# Altium footprint library Crystal.PcbLib: 21 footprints (part 1 of 2)
Each footprint in its own frame and in the unit in brackets; x right, y up, seen from the top. Pads: shape width x height; smd on the part's side, far side on the other; paste and mask are expansions set on the pad; w line width, h text height; cw(c..) or ccw(c..) is an arc to the next point about the centre after c.
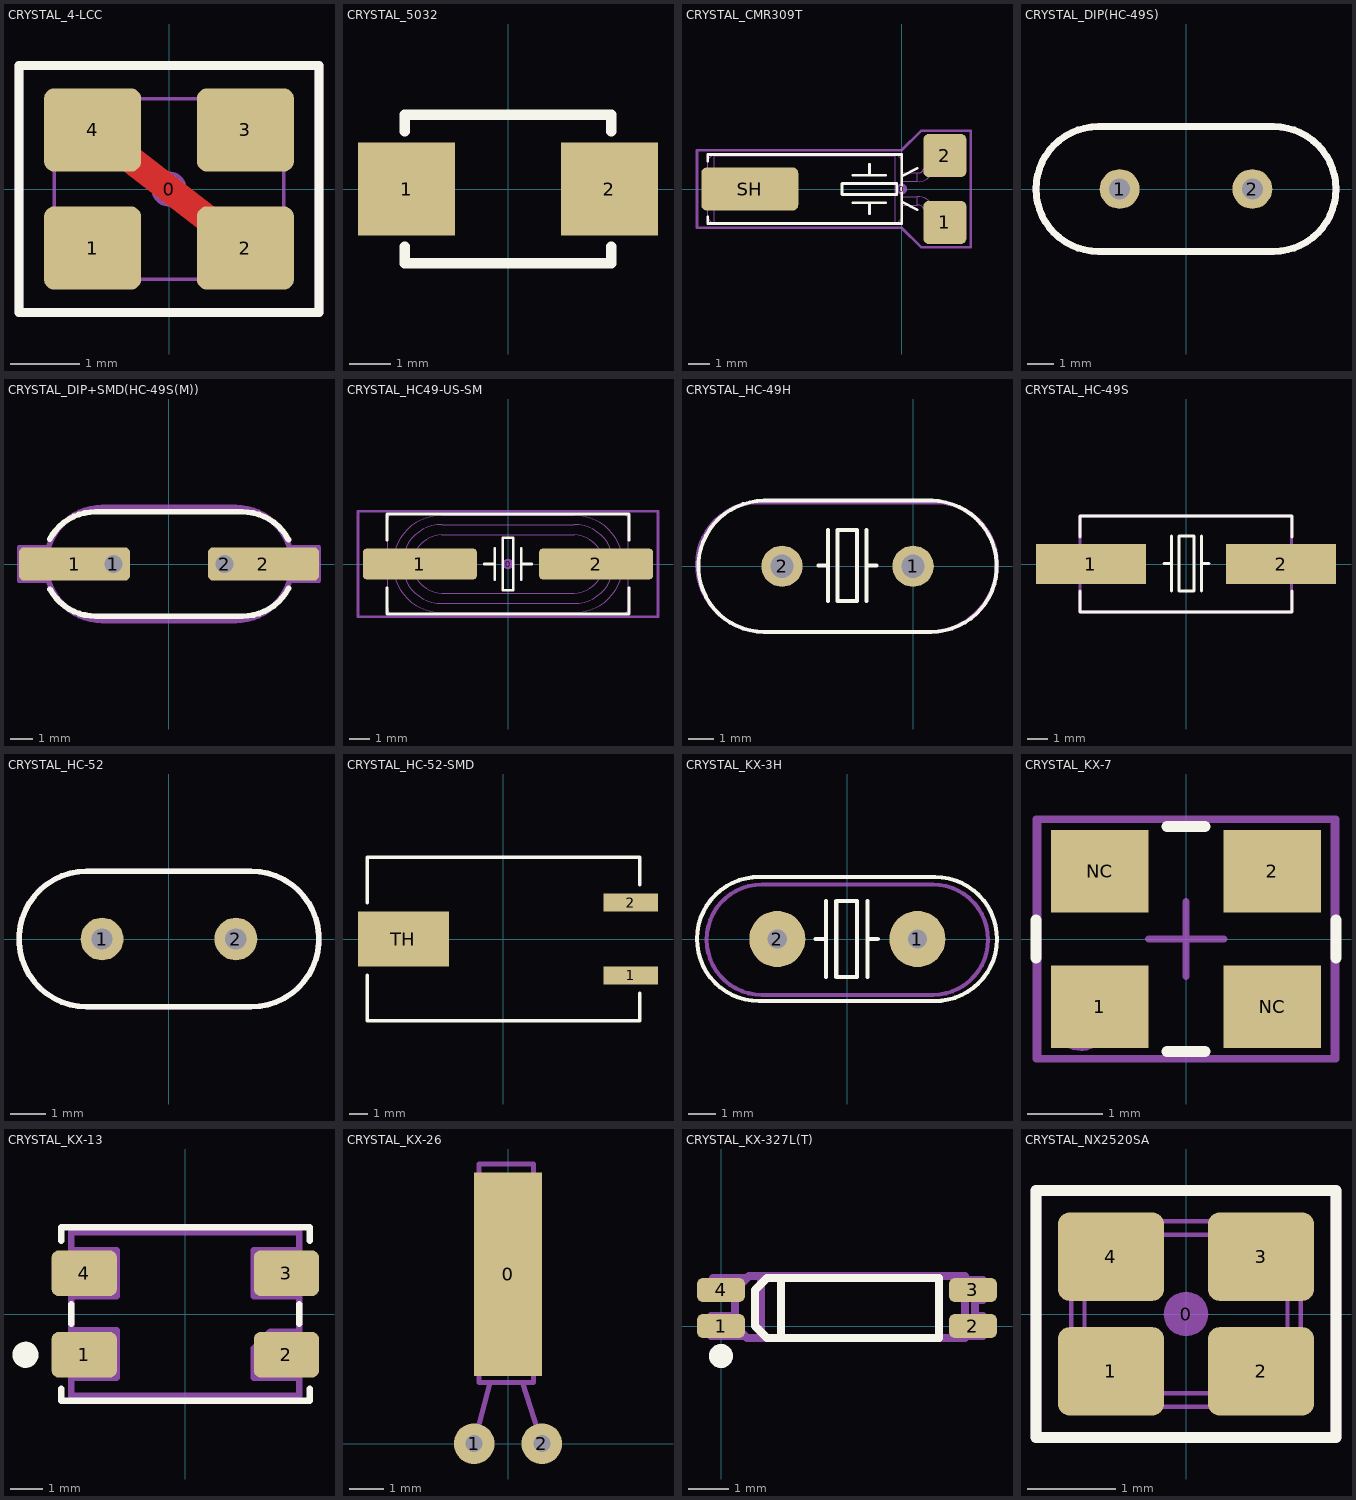
[diagram p0: the footprints below, top view; thin cyan lines are the x and y axes]

## CRYSTAL_4-LCC [mm] "SMD Crystal 4-lead leadless package"
height 0.8
pads (5):
  round 0.508 on Mech15: 0(0,0)
  rrect25% 1.4x1.2 smd: 1(-1.1,-0.85) 2(1.1,-0.85) 3(1.1,0.85) 4(-1.1,0.85)
Top Layer:
  lines w0.4: -1.1,0.85 1.1,-0.85
Top Overlay:
  lines w0.127: -2.159,-1.778 2.159,-1.778 2.159,1.778 -2.159,1.778 -2.159,-1.778
Mechanical 13:
  lines w0.05: -1.65,-1.143 -1.65,1.143 -1.493,1.3 1.494,1.3 1.65,1.144 1.65,-1.143 1.493,-1.3 -1.493,-1.3 -1.65,-1.143
Mechanical 15:
  lines w0.127: -2.159,-1.778 -2.159,1.778 2.159,1.778 2.159,-1.778 -2.159,-1.778
3D body "Crystal TXC Corp 7M series.STEP": height 0.8, standoff 0, extent -1.65,-1.3 1.65,1.3

## CRYSTAL_5032 [mm]
height 5.08
pads (2):
  rect 2.35x2.25 smd: 1(-2.45,0) 2(2.45,0)
Top Overlay:
  lines w0.254: -2.5,-1.4 -2.5,-1.8 2.5,-1.8 2.5,-1.4 ; -2.5,1.4 -2.5,1.8 2.5,1.8 2.5,1.4
3D body "User Library-ABM3.STEP": height 1.3, standoff 0, extent -2.6,-1.7 2.6,1.7

## CRYSTAL_CMR309T [mm] "SMD Crystal CMR309T package"
height 3.1
pads (4):
  round 0.508 on Mech15: 0(0,0)
  rrect25% 2x2 smd: 1(2,-1.55) 2(2,1.55)
  rrect25% 4.5x2 smd: SH(-7.05,0)
Top Overlay:
  lines w0.127: -9,-1.3 -9,-1.6 0,-1.6 0,-0.6 ; -9,1.3 -9,1.6 0,1.6 0,0.6 ; -2.262,-0.635 -0.738,-0.635 ; -2.262,0.635 -0.738,0.635 ; -1.5,-1.143 -1.5,-0.635 ; -1.5,0.635 -1.5,1.143 ; 0.72,-0.96 0,-0.6 ; 0.72,0.96 0,0.6 ; 0,-0.6 0,0.6 ; -2.77,-0.254 -2.77,0.254 -0.23,0.254 -0.23,-0.254 -2.77,-0.254
Mechanical 13:
  lines w0.05: 0,-0.75 0.71,-0.75 ; 0,-0.35 0.71,-0.35 ; 0,0.35 0.71,0.35 ; 0,0.75 0.71,0.75 ; 0.931,-0.79 0.937,-0.798 0.965,-0.823 0.999,-0.84 1.037,-0.85 1.077,-0.851 1.118,-0.843 1.158,-0.828 1.195,-0.805 1.226,-0.776 1.252,-0.741 1.27,-0.704 1.279,-0.664 1.28,-0.625 1.271,-0.588 1.255,-0.555 1.25,-0.548 ; 0.931,0.79 0.937,0.798 0.965,0.823 0.999,0.84 1.037,0.85 1.077,0.851 1.118,0.843 1.158,0.828 1.195,0.805 1.226,0.776 1.252,0.741 1.27,0.704 1.279,0.664 1.28,0.625 1.271,0.588 1.255,0.555 1.25,0.548 ; -8.7,-1.55 cw(c-8.7,-1.25) -9,-1.25 -9,1.25 cw(c-8.7,1.25) -8.7,1.55 ; -8.7,-1.55 -0.3,-1.55 ; -8.7,-1.55 -8.7,1.55 ; -8.7,1.55 -0.3,1.55 ; -0.3,-1.55 ccw(c-0.3,-1.25) 0,-1.25 0,1.25 ccw(c-0.3,1.25) -0.3,1.55 ; -0.3,-1.55 -0.3,1.55 ; 0.71,-0.75 cw(c0.741,-1.171) 0.936,-0.796 1.229,-1.183 ; 0.71,-0.75 0.71,-0.35 ; 0.71,-0.35 cw(c0.757,-1.055) 1.25,-0.548 ; 0.71,0.35 ccw(c0.775,1.007) 1.25,0.548 ; 0.71,0.35 0.71,0.75 ; 0.71,0.75 0.73,0.75 0.773,0.753 0.814,0.758 0.851,0.765 0.881,0.773 0.906,0.781 0.923,0.789 0.933,0.794 0.937,0.797 ; 0.937,0.797 0.937,0.797 ; 0.937,0.797 1.229,1.183 ; 1.229,-1.183 ccw(c2.616,-0.029) 1.491,-1.439 ; 1.229,-1.183 1.236,-1.191 1.263,-1.216 1.297,-1.234 1.335,-1.243 1.376,-1.244 1.417,-1.237 1.456,-1.221 1.493,-1.198 1.525,-1.169 1.55,-1.135 1.568,-1.097 1.577,-1.058 1.578,-1.019 1.569,-0.982 1.553,-0.948 1.548,-0.942 ; 1.229,1.183 cw(c2.589,0.057) 1.491,1.439 ; 1.229,1.183 1.236,1.191 1.263,1.216 1.297,1.234 1.335,1.243 1.376,1.244 1.417,1.237 1.456,1.221 1.493,1.198 1.525,1.169 1.55,1.135 1.568,1.097 1.577,1.058 1.578,1.019 1.569,0.982 1.553,0.948 1.548,0.942 ; 1.25,-0.548 1.548,-0.942 ; 1.25,0.548 1.548,0.942 ; 1.491,-1.439 ccw(c0.753,-0.568) 1.746,-1.132 ; 1.491,-1.439 2.472,-2.254 ccw(c1.735,-1.382) 2.728,-1.946 1.746,-1.132 ; 1.491,1.439 cw(c0.753,0.568) 1.746,1.132 ; 1.491,1.439 2.472,2.254 cw(c1.735,1.382) 2.728,1.946 1.746,1.132 ; 1.548,-0.942 ccw(c2.638,-0.003) 1.746,-1.132 ; 1.548,0.942 cw(c2.604,0.039) 1.746,1.132
Mechanical 15:
  lines w0.127: -9.5,-1.8 -9.5,1.8 0,1.8 0.9,2.7 3.2,2.7 3.2,-2.7 0.9,-2.7 0,-1.8 -9.5,-1.8
3D body "Crystal CMR309T.STEP": height 3.07, standoff -0.01, extent -9,-2.254 2.728,2.254

## CRYSTAL_DIP(HC-49S) [mm]
pads (2):
  round 1.5 hole 0.8: 1(-2.5,0) 2(2.5,0)
Top Overlay:
  lines w0.254: -3.3,-2.35 cw(c-3.3,0) -3.3,2.35 3.3,2.35 cw(c3.3,0) 3.3,-2.35 -3.3,-2.35
Mechanical 8:
  lines w0.254: -3.3,-2.35 cw(c-3.3,0) -3.3,2.35 3.3,2.35 cw(c3.3,0) 3.3,-2.35 -3.3,-2.35
  text ".Designator" at -3.75,-1 h3.5
3D body "HC-49_LT_THT.step": height 4.1, standoff -1.49, extent -5.675,-2.35 5.675,2.3

## CRYSTAL_DIP+SMD(HC-49S(M)) [mm]
pads (4):
  rrect30% 5x1.5 smd: 1(-4.25,0) 2(4.25,0)
  round 1.5 hole 0.8: 1(-2.5,0) 2(2.5,0)
Top Overlay:
  lines w0.254: -5.372,1.108 cw(c-3.3,0) -3.3,2.35 3.295,2.35 cw(c3.295,-0.008) 5.382,1.09 ; -5.361,-1.129 ccw(c-3.3,0) -3.3,-2.35 3.3,-2.35 ccw(c3.3,0.008) 5.386,-1.09
Mechanical 8:
  lines w0.2: -5.45,0.75 -6.75,0.75 -6.75,-0.75 -5.4,-0.75 ; 5.4,-0.75 6.75,-0.75 6.75,0.75 5.45,0.75
  lines w0.254: -5.54,0 ccw(c-3,0) -3,-2.54 3,-2.54 ccw(c3,0) 5.54,0 ccw(c3,0) 3,2.54 -3,2.54 ccw(c-3,0) -5.54,0
  text ".Designator" at -3.8,-0.75 h3
3D body "HC-49_LT_THT.step": height 4.1, standoff -1.49, extent -5.675,-2.35 5.675,2.3

## CRYSTAL_HC49-US-SM [mm] "SMD Crystal HC49/US-SM package"
height 4.3
pads (3):
  round 0.508 on Mech15: 0(0,0)
  rrect25% 5.5x1.5 smd: 1(-4.25,0) 2(4.25,0)
Top Overlay:
  lines w0.127: -5.842,-1.143 -5.842,-2.413 5.842,-2.413 5.842,-1.143 ; -5.842,1.143 -5.842,2.413 5.842,2.413 5.842,1.143 ; -1.143,0 -0.635,0 ; -0.635,-0.762 -0.635,0.762 ; 0.635,-0.762 0.635,0.762 ; 0.635,0 1.143,0 ; -0.254,-1.27 0.254,-1.27 0.254,1.27 -0.254,1.27 -0.254,-1.27
Mechanical 13:
  lines w0.05: -5.8,-0.45 -6.4,-0.45 -6.4,0.45 -5.8,0.45 ; 5.8,-0.45 6.4,-0.45 6.4,0.45 5.8,0.45 ; -5.8,-2.165 ccw(c-5.55,-2.165) -5.55,-2.415 5.55,-2.415 ccw(c5.55,-2.165) 5.8,-2.165 5.8,2.165 ccw(c5.55,2.165) 5.55,2.415 -5.55,2.415 ccw(c-5.55,2.165) -5.8,2.165 -5.8,-2.165 ; -3.2,-2.35 cw(c-3.2,0) -3.2,2.35 3.2,2.35 cw(c3.2,0) 3.2,-2.35 -3.2,-2.35 ; -3.2,-1.9 cw(c-3.2,0) -3.2,1.9 3.2,1.9 cw(c3.2,0) 3.2,-1.9 -3.2,-1.9 ; -3.2,-1.4 cw(c-3.2,0) -3.2,1.4 3.2,1.4 cw(c3.2,0) 3.2,-1.4 -3.2,-1.4
Mechanical 15:
  lines w0.127: -7.239,-2.54 7.239,-2.54 7.239,2.54 -7.239,2.54 -7.239,-2.54
3D body "Crystal HC49_US-SM.STEP": height 4.29, standoff -0.01, extent -6.4,-2.415 6.4,2.415

## CRYSTAL_HC-49H [mm]
pads (2):
  round 1.6 hole 0.9: 1(0,0) 2(-5.08,0)
Top Overlay:
  lines w0.15: -5.79,2.55 0.76,2.55 ; -5.78,-2.54 cw(c-5.78,0) -5.776,2.54 ; -5.74,-2.55 0.66,-2.55 ; -3.675,0.025 -3.3,0.025 ; -3.3,-1.35 -3.3,0.025 ; -3.3,1.4 -3.3,0.025 ; -1.8,-1.35 -1.8,0.025 ; -1.8,1.4 -1.8,0.025 ; -1.425,0.025 -1.8,0.025 ; 0.7,-2.54 ccw(c0.7,0) 0.704,2.54 ; -2.925,-1.35 -2.55,-1.35 -2.175,-1.35 -2.175,0.025 -2.175,1.4 -2.55,1.4 -2.925,1.4 -2.925,0.025 -2.925,-1.35
Mechanical 29:
  lines w0.15: -8.375,0.075 cw(c-5.975,0.075) -5.975,2.475 -2.475,2.475 0.863,2.475 cw(c0.863,0.088) 3.25,0.088 cw(c0.612,0.088) 0.612,-2.55 -2.85,-2.55 -5.75,-2.55 cw(c-5.75,0.075) -8.375,0.075
  text ".Designator" at -5.8,-0.5 h1
3D body "HC-49.STEP": height 3.5, standoff -3, extent -7.925,-2.275 2.875,2.225

## CRYSTAL_HC-49S [mm]
pads (2):
  rect 5.5x2 smd: 1(-4.75,0) 2(4.75,0)
Top Overlay:
  lines w0.15: -5.3,-1.35 -5.3,-2.4 5.3,-2.4 5.3,-1.35 ; -5.3,1.35 -5.3,2.4 5.3,2.4 5.3,1.35 ; -1.1,0.025 -0.725,0.025 ; -0.725,-1.35 -0.725,0.025 ; -0.725,1.4 -0.725,0.025 ; 0.775,-1.35 0.775,0.025 ; 0.775,1.4 0.775,0.025 ; 1.15,0.025 0.775,0.025 ; -0.35,-1.35 0.025,-1.35 0.4,-1.35 0.4,0.025 0.4,1.4 0.025,1.4 -0.35,1.4 -0.35,0.025 -0.35,-1.35
Mechanical 29:
  lines w0.15: -5.3,-2.4 -5.3,2.4 5.275,2.4 5.275,-2.4 -5.3,-2.4
  text ".Designator" at -3.4,-0.3 h1
3D body "HC-49S.STEP": height 4.35, standoff 0, extent -6.175,-2.35 6.125,2.35

## CRYSTAL_HC-52 [mm]
height 8.9
pads (2):
  round 1.2 hole 0.6: 1(-1.875,0) 2(1.875,0)
Top Overlay:
  lines w0.15: -2.3,-1.9 cw(c-2.3,0) -2.3,1.9 2.3,1.9 cw(c2.303,0) 2.3,-1.9 -2.3,-1.9
Mechanical 1:
  lines w0.15: -2.3,-1.9 cw(c-2.3,0) -2.3,1.9 2.3,1.9 cw(c2.303,0) 2.3,-1.9 -2.3,-1.9
Mechanical 29:
  lines w0.15: -4.2,0 ccw(c-2.3,0) -2.3,-1.9 0,-1.9 2.3,-1.9 ccw(c2.3,0) 4.2,0 ccw(c2.3,0) 2.3,1.9 0,1.9 -2.3,1.9 ccw(c-2.3,0) -4.2,0
  text ".Designator" at -2.7,-0.3 h1
3D body: height 8.9, standoff 0, extent -4.199,-1.9 4.202,1.9

## CRYSTAL_HC-52-SMD [mm]
height 3.4
pads (3):
  rect 3x1 smd: 1(7,-2) 2(7,2)
  rect 5x3 smd: TH(-5.5,0)
Top Overlay:
  lines w0.2: -7.5,-2 -7.5,-4.5 7.5,-4.5 7.5,-3 ; -7.5,2 -7.5,4.5 7.5,4.5 7.5,3
3D body "HC-52-SMD.STEP": height 4.05, standoff -0.24, extent -5.6,-4.1 7.4,4.16

## CRYSTAL_KX-3H [mil]
pads (2):
  round 80 hole 27.56: 1(100,0) 2(-100,0)
Top Overlay:
  lines w5.91: -45.28,0 -30.51,0 ; -30.51,-54.13 -30.51,0 ; -30.51,54.13 -30.51,0 ; 28.54,-54.13 28.54,0 ; 28.54,54.13 28.54,0 ; 43.31,0 28.54,0 ; -126,-88.58 cw(c-126,0) -125.09,88.58 125,88.58 cw(c125,0) 124.07,-88.58 -126,-88.58 ; -15.75,-54.13 -0.98,-54.13 13.78,-54.13 13.78,0 13.78,54.13 -0.98,54.13 -15.75,54.13 -15.75,0 -15.75,-54.13
Mechanical 29:
  lines w5.91: -122.05,-79.72 cw(c-122.05,-0.98) -122.05,77.76 122.05,77.76 cw(c122.05,-0.98) 122.05,-79.72 -122.05,-79.72
  text ".Designator" at -125.98,-11.81 h39.37
3D body "HC-49.STEP": height 137.8, standoff -118.11, extent -213.58,-89.57 211.61,87.6

## CRYSTAL_KX-7 [mm] "DFN, 4-Leads, Body 2,50x3,20mm, Pitch 2,10mm, IPC Medium Density"
height 0.8
pads (4):
  rect 1.3x1.1 smd: 1(-1.15,-0.9) 2(1.15,0.9) NC(-1.15,0.9) NC(1.15,-0.9)
Top Overlay:
  lines w0.15: -2,-0.25 -2,0.25 ; -0.25,-1.5 0.25,-1.5 ; -0.25,1.5 0.25,1.5 ; 2,-0.25 2,0.25
  text "." at -2.25,-1.5 h0.1
Mechanical 15:
  lines w0.05: -1.95,-1.6 -1.95,1.6 1.95,1.6 1.95,-1.6 -1.95,-1.6
  lines w0.1: -0.5,0 0.5,0 ; 0,-0.5 0,0.5
Mechanical 29:
  circle w0.15: c-1.4,-1.1 r0.316
  lines w0.1: -2,-1.6 2,-1.6 2,1.6 -2,1.6 -2,-1.6
  text ".Designator" at -1.8,-0.4 h1
3D body "KX-7.step": height 0.8, standoff 0, extent -1.7,-1.35 1.8,1.35

## CRYSTAL_KX-13 [mm]
pads (4):
  rrect30% 2x1.4 smd: 1(-3.1,-1.25) 2(3.1,-1.25) 3(3.1,1.25) 4(-3.1,1.25)
Top Overlay:
  circle w0.4: c-4.9,-1.25 r0.2
  lines w0.2: -3.81,-2.286 -3.81,-2.667 3.81,-2.667 3.81,-2.286 ; -3.81,2.25 -3.81,2.667 3.81,2.667 3.81,2.25 ; -3.5,-0.3 -3.5,0.3 ; 3.5,-0.3 3.5,0.3
Mechanical 8:
  circle w0.4: c-2.7,-1.25 r0.2
  lines w0.2: -3.5,-1.95 -2.1,-1.95 -2.1,-0.5 -3.5,-0.5 ; -3.5,0.55 -2.1,0.55 -2.1,1.95 -3.5,1.95 ; 3.5,-1.95 2.1,-1.95 2.1,-1.05 2.6,-0.55 3.5,-0.55 ; 3.5,0.55 2.1,0.55 2.1,1.95 3.5,1.95 ; -3.5,-2.5 -3.5,2.5 3.5,2.5 3.5,-2.5 -3.5,-2.5
  text ".Designator" at -2,-0.35 h1.8
3D body "KX-13 7_0x5_0x1_3.step": height 1.3, standoff 0, extent -3.571,-2.5 3.429,2.5

## CRYSTAL_KX-26 [mm] "KX-26 - 32768"
pads (3):
  rect 2x6 smd: 0(0,5)
  round 1.2 hole 0.5: 1(-1,0) 2(1,0)
Mechanical 29:
  lines w0.15: -1,0 -0.525,1.8 ; 0.425,1.8 1,0 ; -0.85,1.8 0.75,1.8 0.75,8.25 -0.85,8.25 -0.85,1.8
  text ".Designator" at 0.5,2.1 h1
3D body "KX-26.STEP": height 1.95, standoff -2, extent -1.15,-0.125 1.15,8.225

## CRYSTAL_KX-327L(T) [mm]
pads (4):
  rrect50% 1.2x0.6 smd: 1(0,0) 2(6.3,0) 3(6.3,0.9) 4(0,0.9)
Top Overlay:
  circle w0.3: c0,-0.75 r0.15
  lines w0.2: 1.5,1.2 1.5,-0.3 5.45,-0.3 5.45,1.2 1.15,1.2 0.85,0.9 0.85,0 1.15,-0.3 1.55,-0.3
Mechanical 8:
  circle w0.3: c0,-0.75 r0.15
  lines w0.2: 0.25,0.25 -0.25,0.25 -0.25,-0.25 0.55,-0.25 ; 0.3,0.7 -0.2,0.7 -0.2,1.2 0.6,1.2 ; 1,-0.25 1,1.25 ; 6.1,1.15 6.55,1.15 6.55,0.65 6.35,0.65 6.35,0.25 6.55,0.25 6.55,-0.25 6.1,-0.25 6.1,-0.3 ; 6.1,-0.3 0.65,-0.3 0.35,0 0.35,0.9 0.7,1.25 6.1,1.25 6.1,-0.3
  text ".Designator" at 1.7,-0.05 h1.5
3D body "KX-327LT.step": height 1.4, standoff 0, extent -0.275,-0.357 6.625,1.143

## CRYSTAL_NX2520SA [mm] "SMD Crystal 4-lead leadless package"
height 0.55
pads (5):
  round 0.508 on Mech15: 0(0,0)
  rrect25% 1.2x1 smd mask+0.075: 1(-0.85,-0.65) 2(0.85,-0.65) 3(0.85,0.65) 4(-0.85,0.65)
Top Overlay:
  lines w0.127: -1.7,-1.4 -1.7,1.4 1.7,1.4 1.7,-1.4 -1.7,-1.4
Mechanical 13:
  lines w0.05: -1.3,-0.87 cw(c-1.3,-1.05) -1.12,-1.05 1.12,-1.05 cw(c1.3,-1.05) 1.3,-0.87 1.3,0.87 cw(c1.3,1.05) 1.12,1.05 -1.12,1.05 cw(c-1.3,1.05) -1.3,0.87 -1.3,-0.87 ; -1.15,-0.75 ccw(c-1,-0.75) -1,-0.9 1,-0.9 ccw(c1,-0.75) 1.15,-0.75 1.15,0.75 ccw(c1,0.75) 1,0.9 -1,0.9 ccw(c-1,0.75) -1.15,0.75 -1.15,-0.75
Mechanical 15:
  lines w0.127: -1.7,-1.4 1.7,-1.4 1.7,1.4 -1.7,1.4 -1.7,-1.4
3D body "Crystal NDK NX2520SA series.STEP": height 0.55, standoff 0, extent -1.3,-1.05 1.3,1.05